# Altium footprint library Antennas.PcbLib: 1 footprints
Each footprint in its own frame and in the unit in brackets; x right, y up, seen from the top. Pads: shape width x height; smd on the part's side, far side on the other; paste and mask are expansions set on the pad; w line width, h text height; cw(c..) or ccw(c..) is an arc to the next point about the centre after c.
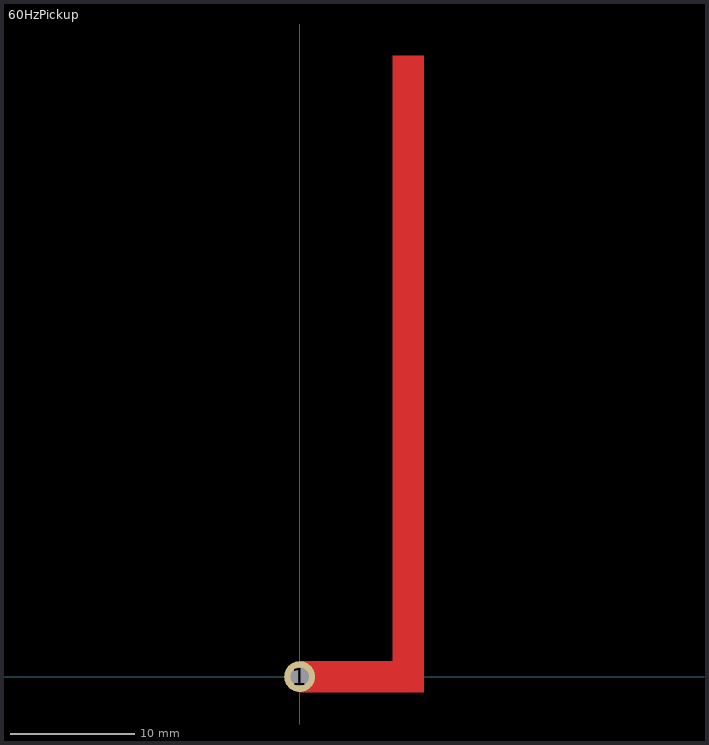
[diagram p0: the footprint, top view; thin cyan lines are the x and y axes]

## 60HzPickup [mm] "This is a small straight trace antenna with an avaliable via for external pickup"
pads (1):
  round 2.5 hole 1.5 paste-10: 1(0,0)
Top Layer:
  region: 0,1.25 0,-1.25 10,-1.25 10,50 7.5,50 7.5,1.25